# EAGLE library part LT8640 (library Robot_MT)
42V, 5A Synchronous Step-Down Silent Switcher with 2.5μA Quiescent Current http://www.analog.com/media/en/technical-documentation/data-sheets/8640fb.pdf
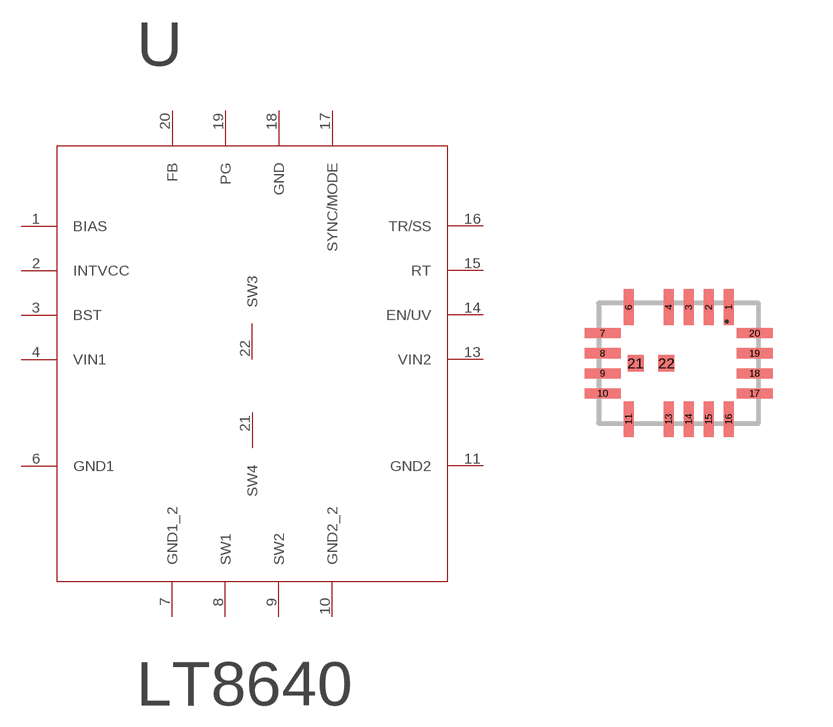
[diagram p0: symbol with the pads of 18-LEAD; footprint 18-LEAD]

Designator prefix -

## LT8640  [18-LEAD]
1  BIAS
2  INTVCC
3  BST
4  VIN1
6  GND1
7  GND1_2
8  SW1
9  SW2
10  GND2_2
11  GND2
13  VIN2
14  EN/UV
15  RT
16  TR/SS
17  SYNC/MODE
18  GND
19  PG
20  FB
21  SW4
22  SW3

## Footprint 18-LEAD (pad centres in mm)
smd 0.25 x 0.9: 1 1.25,1.4; 2 0.75,1.4; 3 0.25,1.4; 4 -0.25,1.4; 6 -1.25,1.4; 11 -1.25,-1.4; 13 -0.25,-1.4; 14 0.25,-1.4; 15 0.75,-1.4; 16 1.25,-1.4
smd 0.9 x 0.25: 7 -1.9,0.75; 8 -1.9,0.25; 9 -1.9,-0.25; 10 -1.9,-0.75; 17 1.9,-0.75; 18 1.9,-0.25; 19 1.9,0.25; 20 1.9,0.75
smd 0.4 x 0.4: 21 -1.075,0; 22 -0.305,0